# EAGLE library part OPA2134 (library TI)
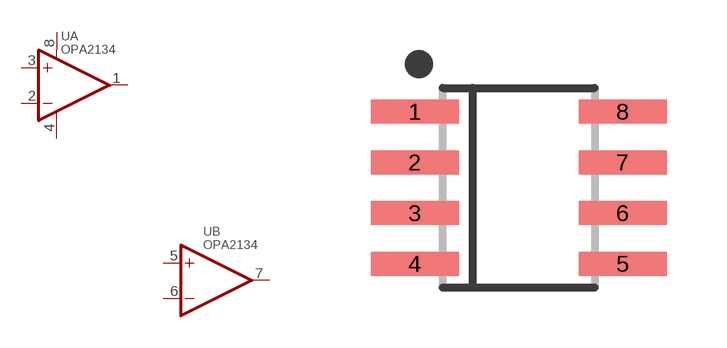
[diagram p36: symbol with the pads of SOIC-8; footprint SOIC-8]

Designator prefix U; gates A=OPAMP_+-_VDD B=OPAMP_+-

## OPA2134UA/2K5  [SOIC-8]
1  A:OUT  out
2  A:-IN  in
3  A:+IN  in
4  A:V-  pwr
5  B:+IN  in
6  B:-IN  in
7  B:OUT  out
8  A:V+  pwr

## Footprint SOIC-8 (pad centres in mm)
smd 2.2 x 0.6: 1 -2.6,1.905; 2 -2.6,0.635; 3 -2.6,-0.635; 4 -2.6,-1.905; 5 2.6,-1.905; 6 2.6,-0.635; 7 2.6,0.635; 8 2.6,1.905